# Altium footprint library PcbLib1.PcbLib: 2 footprints
Each footprint in its own frame and in the unit in brackets; x right, y up, seen from the top. Pads: shape width x height; smd on the part's side, far side on the other; paste and mask are expansions set on the pad; w line width, h text height; cw(c..) or ccw(c..) is an arc to the next point about the centre after c.
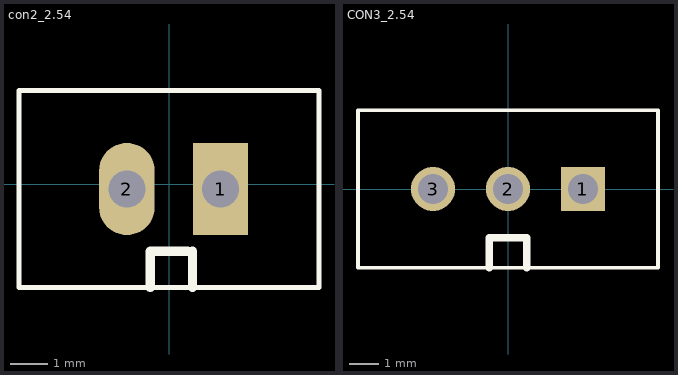
[diagram p0: the footprints below, top view; thin cyan lines are the x and y axes]

## con2_2.54 [mm]
pads (2):
  rect 1.5x2.5 hole 1: 1(1.397,-0.127)
  oval 1.5x2.5 hole 1: 2(-1.143,-0.127)
Top Overlay:
  lines w0.127: -4.064,-2.794 -4.064,2.54 4.064,2.54 4.064,-2.794 -4.064,-2.794
  lines w0.254: -0.508,-2.794 -0.508,-1.818 0.508,-1.818 ; 0.635,-2.794 0.635,-1.818
3D body: height 11.3, standoff -2.9, extent -2.262,-2.627 2.517,2.373

## CON3_2.54 [mm]
pads (3):
  rect 1.5x1.5 hole 1: 1(2.54,0)
  round 1.5 hole 1: 2(0,0) 3(-2.54,0)
Top Overlay:
  lines w0.127: -5.08,-2.667 -5.08,2.667 5.08,2.667 5.08,-2.667 -5.08,-2.667
  lines w0.254: -0.635,-2.667 -0.635,-1.651 0.635,-1.651 0.635,-2.667
3D body: height 11.3, standoff -2.9, extent -3.76,-2.5 3.559,2.5